# EAGLE library part JDC04-DUAL (library nw2s)
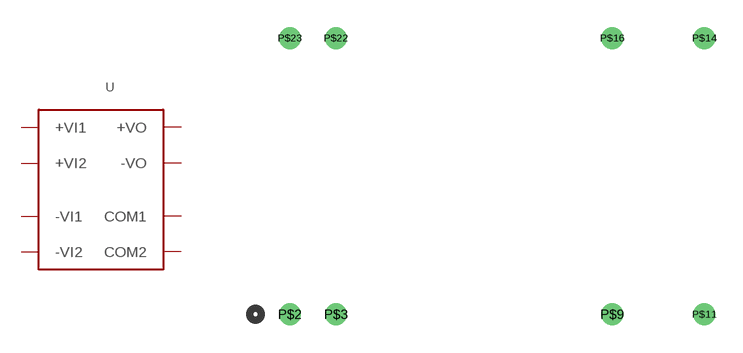
[diagram p9: symbol with the pads of JDC04-DUAL; footprint JDC04-DUAL]

Designator prefix -

## JDC04-DUAL  [JDC04-DUAL]
P$2  -VI1
P$3  -VI2
P$9  COM1
P$11  -VO
P$14  +VO
P$16  COM2
P$22  +VI1
P$23  +VI2

## Footprint JDC04-DUAL (pad centres in mm)
drill 0.7: P$2 -12.065,-7.62; P$3 -9.525,-7.62; P$9 5.715,-7.62; P$11 10.795,-7.62; P$14 10.795,7.62; P$16 5.715,7.62; P$22 -9.525,7.62; P$23 -12.065,7.62